# Altium schematic symbol library ERJ-P06D1003V.SchLib: 1 symbol
Pins are listed as number, name and electrical type; pins without a type are passive.

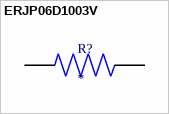
[diagram p0: symbol ERJP06D1003V]

## ERJP06D1003V
designator R?
MF: {'manufacturer': u'Panasonic'}; MP: ERJP06D1003V; Price: None; Availability: Unavailable; Package: None; Value: *
footprint RES_ERJP06D1003V
pins: 1, 2